# Altium footprint library B78416A2232A003.PcbLib: 1 footprints
Each footprint in its own frame and in the unit in brackets; x right, y up, seen from the top. Pads: shape width x height; smd on the part's side, far side on the other; paste and mask are expansions set on the pad; w line width, h text height; cw(c..) or ccw(c..) is an arc to the next point about the centre after c.
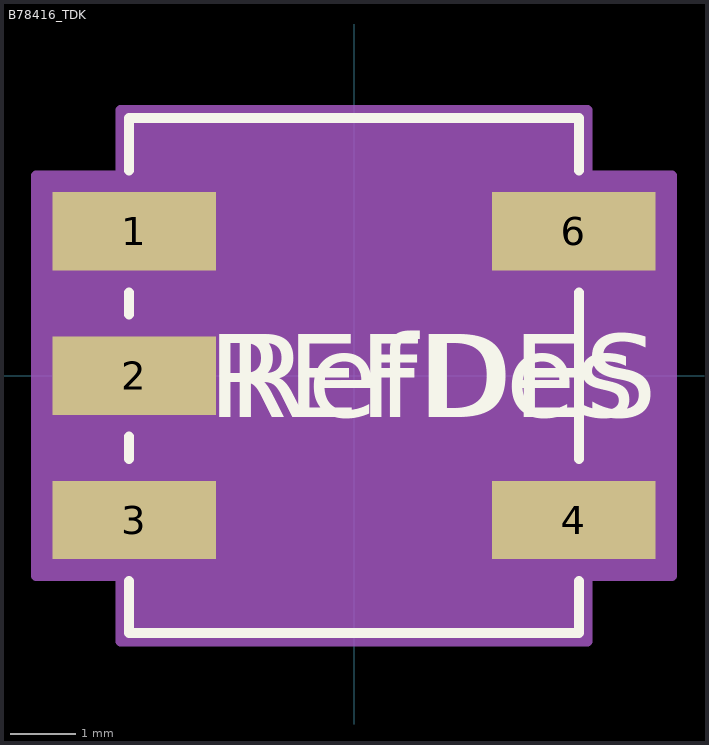
[diagram p0: the footprint, top view; thin cyan lines are the x and y axes]

## B78416_TDK [mil]
pads (5):
  rect 98x47 smd paste+0 mask+0: 1(-131.89,86.61) 2(-131.89,0) 3(-131.89,-86.61) 4(131.89,-86.61) 6(131.89,86.61)
Top Overlay:
  lines w6: -135,-123.21 -135,-154.5 135,-154.5 135,-123.21 ; -135,-50.01 -135,-36.6 ; -135,36.6 -135,50.01 ; -135,123.21 -135,154.5 135,154.5 135,123.21 ; 135,-50.01 135,50.01
  text "RefDes" at -75,-25 h50
  text "REFDES" at -87.5,-25 h50
Mechanical 13:
  circle w0: c-120,86.61 r0
  lines w0: -12,149.5 ccw(c0,149.5) 12,149.5
  lines w1: -130,-149.5 130,-149.5 130,149.5 -130,149.5 -130,-149.5
  text "RefDes2" at -87.5,-25 h50
Mechanical 15:
  region: -140,-120.11 -190.89,-120.11 -190.89,120.11 -140,120.11 -140,159.5 140,159.5 140,120.11 190.89,120.11 190.89,-120.11 140,-120.11 140,-159.5 -140,-159.5
  lines w6: -190.89,-120.11 -190.89,120.11 -140,120.11 -140,159.5 140,159.5 140,120.11 190.89,120.11 190.89,-120.11 140,-120.11 140,-159.5 -140,-159.5 -140,-120.11 -190.89,-120.11
3D body "B78416_TDK.step": height 280, standoff 0, extent -167.13,-149.49 167.13,149.49